# Altium footprint library SOT23-6.PcbLib: 2 footprints
Each footprint in its own frame and in the unit in brackets; x right, y up, seen from the top. Pads: shape width x height; smd on the part's side, far side on the other; paste and mask are expansions set on the pad; w line width, h text height; cw(c..) or ccw(c..) is an arc to the next point about the centre after c.
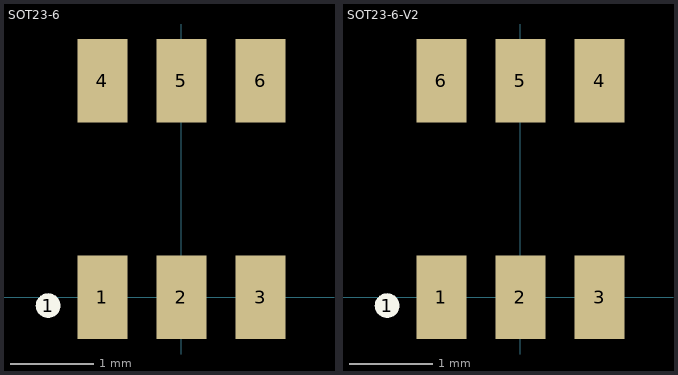
[diagram p0: the footprints below, top view; thin cyan lines are the x and y axes]

## SOT23-6 [mm] "SOT143-4 per SP0503BAHTG (WRONG PIN ORDER)"
pads (7):
  round 0.3 on Top Overlay: 1(-1.6,-0.1)
  rect 0.6x1 smd: 1(-0.95,0) 2(0,0) 3(0.95,0) 4(-0.95,2.6) 5(0,2.6) 6(0.95,2.6)
3D body "SOT236.step": height 1, standoff 0, extent -1.46,0.13 1.46,2.47

## SOT23-6-V2 [mm] "SOT23-6"
pads (7):
  round 0.3 on Top Overlay: 1(-1.6,-0.1)
  rect 0.6x1 smd: 1(-0.95,0) 2(0,0) 3(0.95,0) 4(0.95,2.6) 5(0,2.6) 6(-0.95,2.6)
3D body "SOT236.step": height 1, standoff 0, extent -1.46,0.13 1.46,2.47